# Altium footprint library FT230XS-R.PcbLib: 3 footprints
Each footprint in its own frame and in the unit in brackets; x right, y up, seen from the top. Pads: shape width x height; smd on the part's side, far side on the other; paste and mask are expansions set on the pad; w line width, h text height; cw(c..) or ccw(c..) is an arc to the next point about the centre after c.
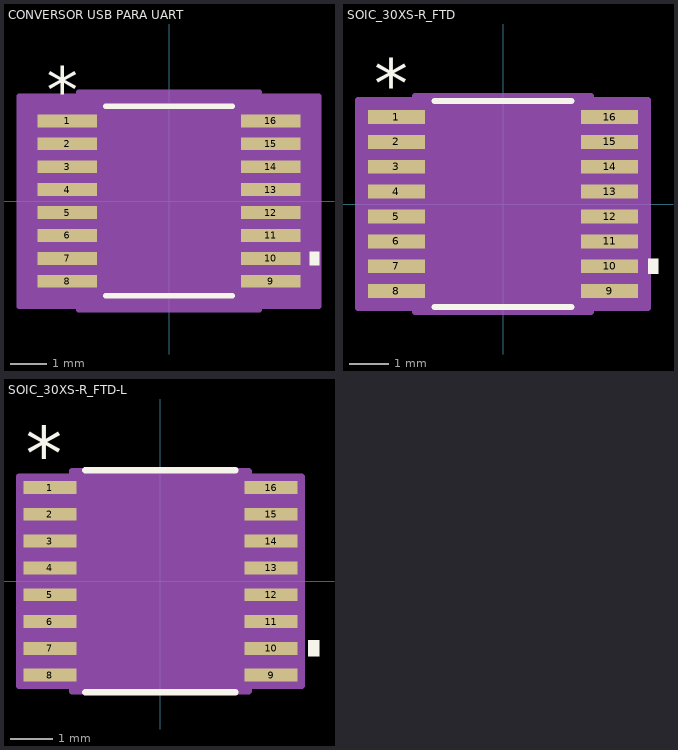
[diagram p0: the footprints below, top view; thin cyan lines are the x and y axes]

## CONVERSOR USB PARA UART [mil]
pads (16):
  rect 65.15x13.97 smd paste+0 mask+0: 1(-111.08,87.5) 2(-111.08,62.5) 3(-111.08,37.5) 4(-111.08,12.5) 5(-111.08,-12.5) 6(-111.08,-37.5) 7(-111.08,-62.5) 8(-111.08,-87.5) 9(111.08,-87.5) 10(111.08,-62.5) 11(111.08,-37.5) 12(111.08,-12.5) 13(111.08,12.5) 14(111.08,37.5) 15(111.08,62.5) 16(111.08,87.5)
Top Overlay:
  region: 153.65,-55 163.65,-55 163.65,-70 153.65,-70
  lines w6: -69,-103.5 69,-103.5 ; -69,103.5 69,103.5
  text "*" at -133.58,96.47 h50
Mechanical 13:
  lines w0: -12,98.5 ccw(c0,98.5) 12,98.5
  lines w1: -122,-93.5 -122,-81.5 -78.5,-81.5 -78.5,-93.5 -122,-93.5 ; -122,-68.5 -122,-56.5 -78.5,-56.5 -78.5,-68.5 -122,-68.5 ; -122,-43.5 -122,-31.5 -78.5,-31.5 -78.5,-43.5 -122,-43.5 ; -122,-18.5 -122,-6.5 -78.5,-6.5 -78.5,-18.5 -122,-18.5 ; -122,6.5 -122,18.5 -78.5,18.5 -78.5,6.5 -122,6.5 ; -122,31.5 -122,43.5 -78.5,43.5 -78.5,31.5 -122,31.5 ; -122,56.5 -122,68.5 -78.5,68.5 -78.5,56.5 -122,56.5 ; -122,81.5 -122,93.5 -78.5,93.5 -78.5,81.5 -122,81.5 ; -78.5,-98.5 78.5,-98.5 78.5,98.5 -78.5,98.5 -78.5,-98.5 ; 78.5,-93.5 78.5,-81.5 122,-81.5 122,-93.5 78.5,-93.5 ; 78.5,-68.5 78.5,-56.5 122,-56.5 122,-68.5 78.5,-68.5 ; 78.5,-43.5 78.5,-31.5 122,-31.5 122,-43.5 78.5,-43.5 ; 78.5,-18.5 78.5,-6.5 122,-6.5 122,-18.5 78.5,-18.5 ; 78.5,6.5 78.5,18.5 122,18.5 122,6.5 78.5,6.5 ; 78.5,31.5 78.5,43.5 122,43.5 122,31.5 78.5,31.5 ; 78.5,56.5 78.5,68.5 122,68.5 122,56.5 78.5,56.5 ; 78.5,81.5 78.5,93.5 122,93.5 122,81.5 78.5,81.5
  text "*" at -76,45.5 h50
Mechanical 15:
  region: -98.5,-114.48 -163.65,-114.48 -163.65,114.48 -98.5,114.48 -98.5,118.5 98.5,118.5 98.5,114.48 163.65,114.48 163.65,-114.48 98.5,-114.48 98.5,-118.5 -98.5,-118.5
  lines w6: -163.65,-114.48 -163.65,114.48 -98.5,114.48 -98.5,118.5 98.5,118.5 98.5,114.48 163.65,114.48 163.65,-114.48 98.5,-114.48 98.5,-118.5 -98.5,-118.5 -98.5,-114.48 -163.65,-114.48
3D body "SOIC_30XS-R_FTD.step": height 69.09, standoff 0, extent -122.01,-98.5 122.01,98.5

## SOIC_30XS-R_FTD [mil]
pads (16):
  rect 57.28x13.97 smd paste+0 mask+0: 1(-107.14,87.5) 2(-107.14,62.5) 3(-107.14,37.5) 4(-107.14,12.5) 5(-107.14,-12.5) 6(-107.14,-37.5) 7(-107.14,-62.5) 8(-107.14,-87.5) 9(107.14,-87.5) 10(107.14,-62.5) 11(107.14,-37.5) 12(107.14,-12.5) 13(107.14,12.5) 14(107.14,37.5) 15(107.14,62.5) 16(107.14,87.5)
Top Overlay:
  region: 145.78,-55 155.78,-55 155.78,-70 145.78,-70
  lines w6: -69,-103.5 69,-103.5 ; -69,103.5 69,103.5
  text "*" at -129.64,96.47 h50
Mechanical 13:
  lines w0: -12,98.5 ccw(c0,98.5) 12,98.5
  lines w1: -122,-93.5 -122,-81.5 -78.5,-81.5 -78.5,-93.5 -122,-93.5 ; -122,-68.5 -122,-56.5 -78.5,-56.5 -78.5,-68.5 -122,-68.5 ; -122,-43.5 -122,-31.5 -78.5,-31.5 -78.5,-43.5 -122,-43.5 ; -122,-18.5 -122,-6.5 -78.5,-6.5 -78.5,-18.5 -122,-18.5 ; -122,6.5 -122,18.5 -78.5,18.5 -78.5,6.5 -122,6.5 ; -122,31.5 -122,43.5 -78.5,43.5 -78.5,31.5 -122,31.5 ; -122,56.5 -122,68.5 -78.5,68.5 -78.5,56.5 -122,56.5 ; -122,81.5 -122,93.5 -78.5,93.5 -78.5,81.5 -122,81.5 ; -78.5,-98.5 78.5,-98.5 78.5,98.5 -78.5,98.5 -78.5,-98.5 ; 78.5,-93.5 78.5,-81.5 122,-81.5 122,-93.5 78.5,-93.5 ; 78.5,-68.5 78.5,-56.5 122,-56.5 122,-68.5 78.5,-68.5 ; 78.5,-43.5 78.5,-31.5 122,-31.5 122,-43.5 78.5,-43.5 ; 78.5,-18.5 78.5,-6.5 122,-6.5 122,-18.5 78.5,-18.5 ; 78.5,6.5 78.5,18.5 122,18.5 122,6.5 78.5,6.5 ; 78.5,31.5 78.5,43.5 122,43.5 122,31.5 78.5,31.5 ; 78.5,56.5 78.5,68.5 122,68.5 122,56.5 78.5,56.5 ; 78.5,81.5 78.5,93.5 122,93.5 122,81.5 78.5,81.5
  text "*" at -76,45.5 h50
Mechanical 15:
  region: -88.5,-104.48 -145.78,-104.48 -145.78,104.48 -88.5,104.48 -88.5,108.5 88.5,108.5 88.5,104.48 145.78,104.48 145.78,-104.48 88.5,-104.48 88.5,-108.5 -88.5,-108.5
  lines w6: -145.78,-104.48 -145.78,104.48 -88.5,104.48 -88.5,108.5 88.5,108.5 88.5,104.48 145.78,104.48 145.78,-104.48 88.5,-104.48 88.5,-108.5 -88.5,-108.5 -88.5,-104.48 -145.78,-104.48
3D body "SOIC_30XS-R_FTD.step": height 69.09, standoff 0, extent -122.01,-98.5 122.01,98.5

## SOIC_30XS-R_FTD-L [mil]
pads (16):
  rect 49.41x12 smd paste+0 mask+0: 1(-103.2,87.5) 2(-103.2,62.5) 3(-103.2,37.5) 4(-103.2,12.5) 5(-103.2,-12.5) 6(-103.2,-37.5) 7(-103.2,-62.5) 8(-103.2,-87.5) 9(103.2,-87.5) 10(103.2,-62.5) 11(103.2,-37.5) 12(103.2,-12.5) 13(103.2,12.5) 14(103.2,37.5) 15(103.2,62.5) 16(103.2,87.5)
Top Overlay:
  region: 137.91,-55 147.91,-55 147.91,-70 137.91,-70
  lines w6: -70.04,-103.5 70.04,-103.5 ; -70.04,103.5 70.04,103.5
  text "*" at -125.7,94.5 h50
Mechanical 13:
  lines w0: -12,98.5 ccw(c0,98.5) 12,98.5
  lines w1: -122,-93.5 -122,-81.5 -78.5,-81.5 -78.5,-93.5 -122,-93.5 ; -122,-68.5 -122,-56.5 -78.5,-56.5 -78.5,-68.5 -122,-68.5 ; -122,-43.5 -122,-31.5 -78.5,-31.5 -78.5,-43.5 -122,-43.5 ; -122,-18.5 -122,-6.5 -78.5,-6.5 -78.5,-18.5 -122,-18.5 ; -122,6.5 -122,18.5 -78.5,18.5 -78.5,6.5 -122,6.5 ; -122,31.5 -122,43.5 -78.5,43.5 -78.5,31.5 -122,31.5 ; -122,56.5 -122,68.5 -78.5,68.5 -78.5,56.5 -122,56.5 ; -122,81.5 -122,93.5 -78.5,93.5 -78.5,81.5 -122,81.5 ; -78.5,-98.5 78.5,-98.5 78.5,98.5 -78.5,98.5 -78.5,-98.5 ; 78.5,-93.5 78.5,-81.5 122,-81.5 122,-93.5 78.5,-93.5 ; 78.5,-68.5 78.5,-56.5 122,-56.5 122,-68.5 78.5,-68.5 ; 78.5,-43.5 78.5,-31.5 122,-31.5 122,-43.5 78.5,-43.5 ; 78.5,-18.5 78.5,-6.5 122,-6.5 122,-18.5 78.5,-18.5 ; 78.5,6.5 78.5,18.5 122,18.5 122,6.5 78.5,6.5 ; 78.5,31.5 78.5,43.5 122,43.5 122,31.5 78.5,31.5 ; 78.5,56.5 78.5,68.5 122,68.5 122,56.5 78.5,56.5 ; 78.5,81.5 78.5,93.5 122,93.5 122,81.5 78.5,81.5
  text "*" at -76,45.5 h50
Mechanical 15:
  region: -82.5,-97.5 -131.91,-97.5 -131.91,97.5 -82.5,97.5 -82.5,102.5 82.5,102.5 82.5,97.5 131.91,97.5 131.91,-97.5 82.5,-97.5 82.5,-102.5 -82.5,-102.5
  lines w6: -131.91,-97.5 -131.91,97.5 -82.5,97.5 -82.5,102.5 82.5,102.5 82.5,97.5 131.91,97.5 131.91,-97.5 82.5,-97.5 82.5,-102.5 -82.5,-102.5 -82.5,-97.5 -131.91,-97.5
3D body "SOIC_30XS-R_FTD.step": height 69.09, standoff 0, extent -122.01,-98.5 122.01,98.5